# EAGLE library part AS179-92LF (library custom)
ANT2 = J3, ANT1 = J2, SW = J1 V1 = 1, V2 = 0: SW to ANT2 V1 = 0, V2 = 1: SW to ANT1
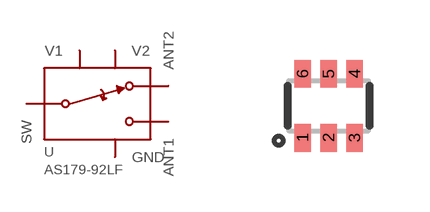
[diagram p94: symbol with the pads of SOT-363; footprint SOT-363]

Designator prefix U

## AS179-92LF  [SOT-363]
1  ANT2
2  GND
3  ANT1
4  V1
5  SW
6  V2

## Footprint SOT-363 (pad centres in mm)
smd 0.42 x 0.7: 1 -0.65,-0.8; 2 0,-0.8; 3 0.65,-0.8; 4 0.65,0.8; 5 0,0.8; 6 -0.65,0.8